# EAGLE library part HE14_H_6 (library BlueBoard)
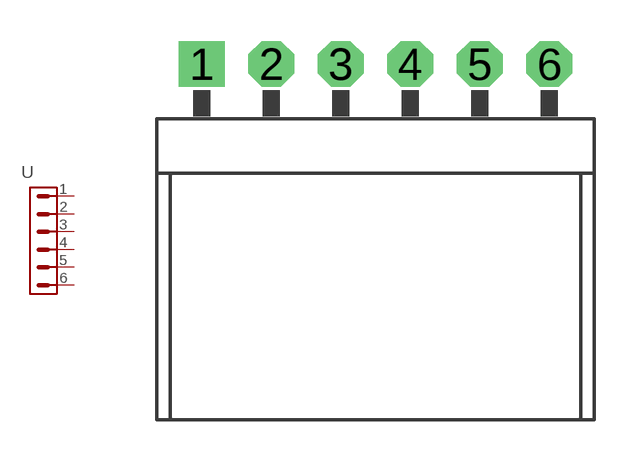
[diagram p22: symbol with the pads of HE14_H_6; footprint HE14_H_6]

Designator prefix -

## HE14_H_6  [HE14_H_6]
1  1
2  2
3  3
4  4
5  5
6  6

## Footprint HE14_H_6 (pad centres in mm)
drill 1 pad 1.676 square: 1 -6.35,0
drill 1 pad 1.676 octagon: 2 -3.81,0; 3 -1.27,0; 4 1.27,0; 5 3.81,0; 6 6.35,0